# EAGLE library part XMC2GO (library XMC2GO)
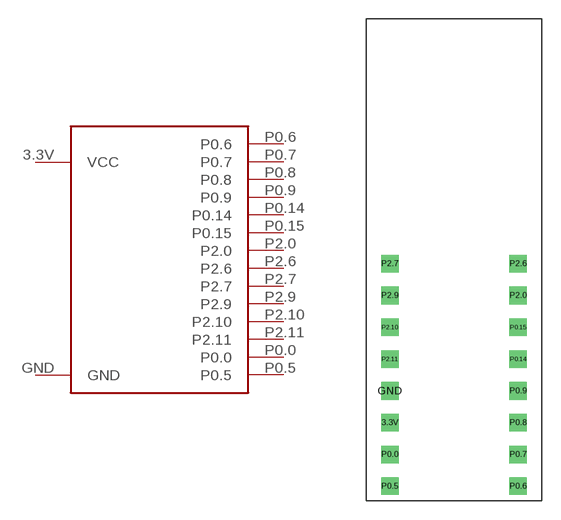
[diagram p0: symbol with the pads of XMC2GO; footprint XMC2GO]

Designator prefix XMC

## XMC2GO  [XMC2GO]
3.3V  VCC  pwr
GND  GND  pwr
P0.0  P0.0
P0.5  P0.5
P0.6  P0.6
P0.7  P0.7
P0.8  P0.8
P0.9  P0.9
P0.14  P0.14
P0.15  P0.15
P2.0  P2.0
P2.6  P2.6
P2.7  P2.7
P2.9  P2.9
P2.10  P2.10
P2.11  P2.11

## Footprint XMC2GO (pad centres in mm)
drill 0.9 square: 3.3V -5.12,-13.01; GND -5.12,-10.47; P0.0 -5.12,-15.55; P0.5 -5.12,-18.09; P0.6 5.12,-18.09; P0.7 5.12,-15.55; P0.8 5.12,-13.01; P0.9 5.12,-10.47; P0.14 5.12,-7.93; P0.15 5.12,-5.39; P2.0 5.12,-2.85; P2.6 5.12,-0.31; P2.7 -5.12,-0.31; P2.9 -5.12,-2.85; P2.10 -5.12,-5.39; P2.11 -5.12,-7.93